# Altium footprint library 80-BabyCarBatControl_PCB.PcbLib: 30 footprints (part 1 of 2)
Each footprint in its own frame and in the unit in brackets; x right, y up, seen from the top. Pads: shape width x height; smd on the part's side, far side on the other; paste and mask are expansions set on the pad; w line width, h text height; cw(c..) or ccw(c..) is an arc to the next point about the centre after c.
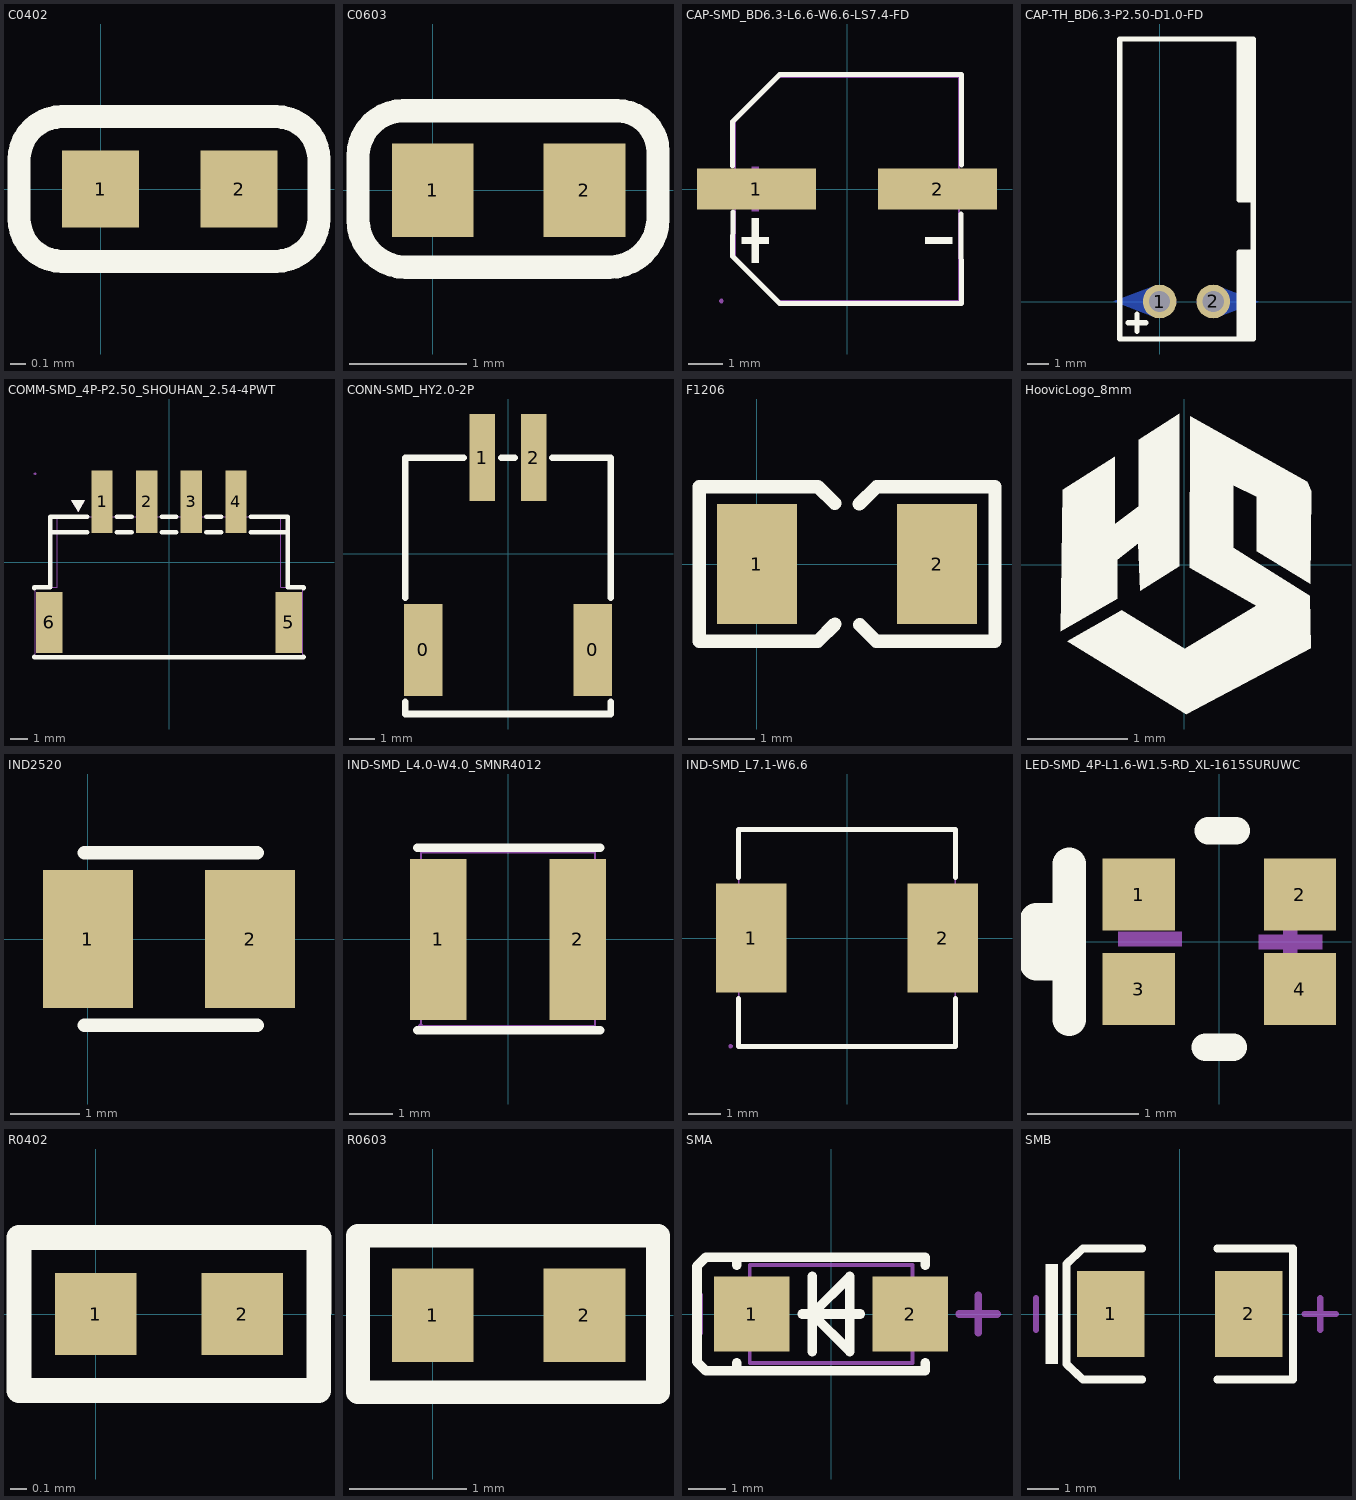
[diagram p0: the footprints below, top view; thin cyan lines are the x and y axes]

## C0402 [mm]
pads (2):
  rect 0.5x0.5 smd: 1(0,0) 2(0.9,0)
Top Overlay:
  lines w0.15: -0.53,-0.19 ccw(c-0.25,-0.19) -0.25,-0.47 1.14,-0.47 ccw(c1.14,-0.19) 1.42,-0.19 1.42,0.19 ccw(c1.14,0.19) 1.14,0.47 -0.25,0.47 ccw(c-0.25,0.19) -0.53,0.19 -0.53,-0.19
3D body "User Library-SMD CAPACITOR-0402.STEP": height 0.5, standoff 0, extent -0.05,-0.25 0.95,0.25

## C0603 [mm]
pads (2):
  rect 0.7x0.8 smd: 1(0,0) 2(1.3,0)
Top Overlay:
  lines w0.2: -0.64,-0.25 ccw(c-0.23,-0.25) -0.23,-0.66 1.51,-0.66 ccw(c1.51,-0.24) 1.93,-0.24 1.93,0.33 ccw(c1.58,0.33) 1.58,0.68 -0.25,0.68 ccw(c-0.25,0.29) -0.64,0.29 -0.64,-0.25
3D body "User Library-SMD CAPACITOR-0603.STEP": height 0.8, standoff 0, extent -0.15,-0.4 1.45,0.4

## CAP-SMD_BD6.3-L6.6-W6.6-LS7.4-FD [mm]
pads (2):
  rect 3.5x1.2 smd: 1(-2.67,0) 2(2.67,0)
Top Overlay:
  region: -2.805,-0.858 -2.805,-2.178 -2.607,-2.178 -2.607,-0.858
  region: -3.102,-1.419 -3.102,-1.617 -2.31,-1.617 -2.31,-1.419
  region: 3.102,-1.419 3.102,-1.617 2.31,-1.617 2.31,-1.419
  lines w0.152: -3.376,0.686 -3.376,1.98 -1.98,3.376 3.376,3.376 3.369,0.708 ; -3.362,-0.686 -3.376,-1.981 -1.981,-3.376 3.376,-3.376 3.356,-0.739
Mechanical 6:
  region: -2.805,0.66 -2.805,-0.66 -2.607,-0.66 -2.607,0.66
  region: -3.102,0.099 -3.102,-0.099 -2.31,-0.099 -2.31,0.099
  region: 3.102,0.099 3.102,-0.099 2.31,-0.099 2.31,0.099
Mechanical 15:
  region: 1.052,0.35 3.701,0.35 3.701,-0.35 1.052,-0.35
  region: -3.702,0.35 -1.052,0.35 -1.052,-0.35 -3.702,-0.35
  region: -3.642,-3.3 -3.642,-3.275 -3.677,-3.24 -3.727,-3.24 -3.762,-3.275 -3.762,-3.3 -3.762,-3.325 -3.727,-3.36 -3.677,-3.36 -3.642,-3.325
  lines w0.051: -3.3,-1.98 -3.3,1.98 -1.98,3.3 3.3,3.3 3.3,-3.3 -1.98,-3.3 -3.3,-1.98
3D body "User Library-CAP SMD SVP 6_3x5_9.STEP": height 5.9, standoff 0, extent -3.65,-3.3 3.65,3.3

## CAP-TH_BD6.3-P2.50-D1.0-FD [mm]
pads (2):
  round 1.6 hole 1: 1(0,0) 2(2.54,0)
Bottom Layer:
  region: -0.31,0.718 -2.199,0.001 -0.31,-0.718
  region: 2.81,-0.718 4.699,-0.001 2.81,0.718
Top Overlay:
  lines w0.254: -1.483,-1.012 -0.657,-1.012 ; -1.07,-1.425 -1.07,-0.6 ; 3.775,-1.778 3.775,2.337 3.934,2.337 ; 3.775,12.383 3.775,9.957 ; 3.778,9.957 3.775,9.957 ; 3.934,-1.778 3.934,2.337 ; 3.934,4.842 3.934,9.957 ; 3.934,12.383 3.934,9.957 ; 3.937,9.957 3.934,9.957 ; 3.945,4.833 3.945,4.832 4.254,4.832 ; 4.093,-1.778 4.093,2.337 ; 4.093,4.836 4.093,9.957 4.093,12.383 ; 4.254,-1.778 4.254,2.337 ; 4.254,12.369 4.254,9.957 4.254,4.832 ; 3.775,9.957 3.775,4.842 3.775,4.832 4.254,4.832 ; 3.934,2.337 4.443,2.337 ; 4.443,2.337 4.443,10.338 4.443,12.446 -1.884,12.446 -1.884,-1.778 2.159,-1.778 4.443,-1.778 4.443,2.337
Bottom Overlay:
  lines w0.5: 1.27,-1.3 1.27,1.3
Bottom Solder:
  region: -0.51,0.719 -2.425,-0.008 -0.51,-0.738
  region: 3.01,-0.719 4.925,0.008 3.01,0.738

## COMM-SMD_4P-P2.50_SHOUHAN_2.54-4PWT [mm]
pads (6):
  rect 1.2x3.5 smd paste+0 mask+0.05: 1(-3.75,3.375) 2(-1.25,3.375) 3(1.25,3.375) 4(3.75,3.375)
  rect 1.5x3.4 smd paste+0 mask+0.05: 5(6.7,-3.375) 6(-6.7,-3.375)
Top Overlay:
  region: -5.092,2.828 -4.711,3.463 -5.473,3.463
  region: -5.092,2.828 -4.711,3.463 -5.473,3.463
  lines w0.254: -7.533,-5.291 -7.533,-5.334 7.533,-5.334 7.533,-5.29 ; -7.533,-1.459 -7.533,-1.397 -6.644,-1.397 -6.644,2.54 -4.581,2.54 ; -6.644,1.669 -4.581,1.669 ; -2.919,1.669 -2.081,1.669 ; -2.919,2.54 -2.081,2.54 ; -0.419,1.669 0.419,1.669 ; -0.419,2.54 0.419,2.54 ; 2.081,1.669 2.919,1.669 ; 2.081,2.54 2.919,2.54 ; 4.581,1.669 6.644,1.669 ; 4.581,2.54 6.644,2.54 6.644,-1.397 7.533,-1.397 7.533,-1.459
Mechanical 6:
  region: -5.092,2.828 -4.711,3.463 -5.473,3.463
Mechanical 15:
  region: 3.43,4.94 4.07,4.94 4.07,2.34 3.43,2.34
  region: 0.93,4.94 1.57,4.94 1.57,2.34 0.93,2.34
  region: -1.57,4.94 -0.93,4.94 -0.93,2.34 -1.57,2.34
  region: -4.07,4.94 -3.43,4.94 -3.43,2.34 -4.07,2.34
  region: -6.9,-2.275 -6.5,-2.275 -6.5,-4.475 -6.9,-4.475
  region: 6.5,-2.275 6.9,-2.275 6.9,-4.475 6.5,-4.475
  region: -7.44,4.94 -7.44,4.965 -7.475,5 -7.525,5 -7.56,4.965 -7.56,4.94 -7.56,4.915 -7.525,4.88 -7.475,4.88 -7.44,4.915
  lines w0.051: -7.5,-5.26 7.5,-5.26 7.5,-1.397 6.25,-1.397 6.25,2.54 -6.25,2.54 -6.25,-1.397 -7.5,-1.397 -7.5,-5.26
3D body "User Library-XH2_54-4P-R_XZR.STEP": height 5.9, standoff 0.1, extent -6.25,-5.26 6.25,2.34

## CONN-SMD_HY2.0-2P [mm]
height 5.2
pads (4):
  rect 1.5x3.6 smd: 0(-3.3,-3.751) 0(3.3,-3.751)
  rect 1x3.4 smd: 1(-1,3.749) 2(1.001,3.751)
Top Overlay:
  lines w0.254: -4,-5.782 -4,-6.251 4,-6.251 4,-5.782 ; -4,-1.72 -4,3.749 -1.731,3.749 ; -0.269,3.749 0.27,3.749 ; 1.733,3.749 4,3.749 4,-1.72
3D body "User Library-ph2_0_2p_wt.STEP": height 5.6, standoff 0, extent -3.975,-6.375 4.025,2.225

## F1206 [mm]
pads (2):
  rect 1.2x1.8 smd: 1(0,0) 2(2.7,0)
Top Overlay:
  lines w0.2: 1.165,0.91 0.915,1.16 -0.865,1.16 -0.865,-1.16 0.9,-1.16 0.91,-1.16 1.17,-0.9 ; 1.535,0.9 1.795,1.16 ; 1.54,-0.91 1.79,-1.16 3.57,-1.16 3.57,1.16 1.805,1.16
3D body "User Library-SF-1206F.STEP": height 0.61, standoff 0, extent -0.2,-0.775 2.9,0.775

## HoovicLogo_8mm [mm]
Top Overlay:
  region: 1.229,0.831 1.27,0.738 1.262,-0.192 0.725,0.137 0.725,0.681 0.49,0.799 0.49,0.169 1.258,-0.311 1.266,-0.835 0.018,-1.494 -1.173,-0.767 -0.628,-0.454 0.006,-0.839 0.721,-0.408 0.056,-0.028 0.058,1.488
  region: -0.052,-0.014 -0.441,-0.258 -0.461,0.217 -0.673,0.051 -0.673,-0.342 -1.237,-0.667 -1.217,0.75 -0.697,1.083 -0.697,0.408 -0.457,0.587 -0.457,1.254 -0.052,1.51

## IND2520 [mm]
pads (2):
  rect 1.3x2 smd: 1(0,0) 2(2.35,0)
Top Overlay:
  lines w0.2: -0.05,-1.25 2.45,-1.25 ; -0.05,1.25 2.45,1.25
3D body "User Library-INDM2520X190N.STEP": height 1.8, standoff 0, extent -0.05,-1 2.45,1

## IND-SMD_L4.0-W4.0_SMNR4012 [mm]
pads (2):
  rect 1.3x3.7 smd: 1(-1.6,0) 2(1.6,0)
Top Overlay:
  lines w0.203: -2.079,-2.092 2.121,-2.092 ; -2.079,2.108 2.121,2.108
Mechanical 15:
  region: -1.039,1.712 -1.039,-1.712 -2.009,-1.712 -2.009,1.712
  region: 2.009,1.712 2.009,-1.712 1.039,-1.712 1.039,1.712
  region: -1.949,-2 -1.949,-1.975 -1.984,-1.94 -2.033,-1.94 -2.069,-1.975 -2.069,-2 -2.069,-2.025 -2.033,-2.06 -1.984,-2.06 -1.949,-2.025
  lines w0.051: -2,-2 -2,2 2,2 2,-2 -2,-2
3D body "User Library-NRS4018_3.STEP": height 1.8, standoff 0, extent -2.1,-2.1 2.1,2.1

## IND-SMD_L7.1-W6.6 [mm]
height 6.5
pads (2):
  rect 2.15x3.32 smd paste+0 mask+0.051: 1(-2.913,0) 2(2.913,0)
Top Overlay:
  lines w0.152: -3.302,-1.84 -3.302,-3.302 3.302,-3.302 3.302,-1.84 ; -3.302,1.84 -3.302,3.302 3.302,3.302 3.302,1.84
Mechanical 15:
  region: 1.95,1.5 3.55,1.5 3.55,-1.5 1.95,-1.5
  region: -3.55,1.5 -1.95,1.5 -1.95,-1.5 -3.55,-1.5
  region: -3.49,-3.3 -3.49,-3.275 -3.525,-3.24 -3.575,-3.24 -3.61,-3.275 -3.61,-3.3 -3.61,-3.325 -3.575,-3.36 -3.525,-3.36 -3.49,-3.325
  lines w0.051: -3.3,-3.3 -3.3,3.3 3.3,3.3 3.3,-3.3 -3.3,-3.3
3D body "User Library-CDRH6D28-1.STEP": height 3, standoff 0, extent -3.431,-3.466 3.431,3.467

## LED-SMD_4P-L1.6-W1.5-RD_XL-1615SURUWC [mm]
pads (4):
  rect 0.65x0.65 smd: 1(-0.725,0.425) 2(0.725,0.425) 3(-0.725,-0.425) 4(0.725,-0.425)
Top Overlay:
  lines w0.25: -0.125,-0.95 0.125,-0.95 ; -0.1,1 0.15,1
  lines w0.3: -1.35,-0.7 -1.35,0.7 ; -1.35,-0.2 -1.65,-0.2 -1.65,0 ; -1.35,0 -1.65,0 ; -1.35,0.2 -1.65,0.2 -1.65,0
Mechanical 15:
  region: -0.339,-0.038 -0.91,-0.038 -0.91,0.089 -0.339,0.089
  region: 0.925,-0.066 0.353,-0.066 0.353,0.061 0.925,0.061
  region: 0.573,-0.286 0.573,0.286 0.7,0.286 0.7,-0.286
3D body "User Library-HSMF-C114.STEP": height 0.34, standoff -0.01, extent -0.8,-0.75 0.8,0.75

## R0402 [mm]
pads (2):
  rect 0.5x0.5 smd: 1(0,0) 2(0.9,0)
Top Overlay:
  lines w0.152: -0.47,-0.47 1.369,-0.47 1.37,0.47 -0.47,0.47 -0.47,-0.47
3D body "User Library-SMD RESISTOR-0402.STEP": height 0.35, standoff 0, extent -0.05,-0.25 0.95,0.25

## R0603 [mm]
pads (2):
  rect 0.7x0.8 smd: 1(0,0) 2(1.3,0)
Top Overlay:
  lines w0.203: -0.64,-0.66 -0.64,0.68 1.93,0.68 1.93,-0.66 -0.64,-0.66
3D body "User Library-SMD RESISTOR-0603.STEP": height 0.45, standoff 0, extent -0.15,-0.4 1.45,0.4

## SMA [mm]
pads (2):
  rect 2x2 smd: 1(-2.1,0) 2(2.1,0)
Top Overlay:
  lines w0.254: -2.5,-1.3 -2.5,-1.5 ; -2.5,1.3 -2.5,1.5 ; -0.77,0 0.77,0 ; -0.5,-1 -0.5,1 ; 2.5,-1.3 2.5,-1.5 -2.5,-1.5 ; 2.5,1.3 2.5,1.5 -2.5,1.5 ; -2.5,-1.5 -3.326,-1.5 -3.556,-1.27 -3.556,1.27 -3.326,1.5 -2.5,1.5 ; -0.5,0 0.5,-1 0.5,1 -0.5,0
Mechanical 13:
  lines w0.1: -2.16,-1.3 2.16,-1.3 2.16,1.3 -2.16,1.3 -2.16,-1.3
Mechanical 15:
  lines w0.203: -3.5,-0.5 -3.5,0.5 ; 3.4,0 4.4,0 ; 3.9,-0.5 3.9,0.5
3D body "User Library-DO-214AC SMA.STEP": height 2.4, standoff 0, extent -2.6,-1.3 2.6,1.3

## SMB [mm]
pads (2):
  rect 2.159x2.743 smd: 1(-2.21,0) 2(2.21,0)
Top Overlay:
  rectangle: -4.296,-1.6 -3.896,1.6
  lines w0.254: -1.2,-2.1 -3.1,-2.1 -3.625,-1.6 -3.625,1.6 -3.1,2.1 -1.2,2.1 ; 1.2,-2.1 3.625,-2.1 3.625,2.1 1.2,2.1
Mechanical 15:
  lines w0.203: -4.6,-0.5 -4.6,0.5 ; 4,0 5,0 ; 4.5,-0.5 4.5,0.5
3D body "User Library-DO-214AA SMB.STEP": height 2.3, standoff 0, extent -2.7,-1.8 2.7,1.8